# Altium integrated library BB Instrumentation Amplifier.IntLib: 107 symbols (part 3 of 3)
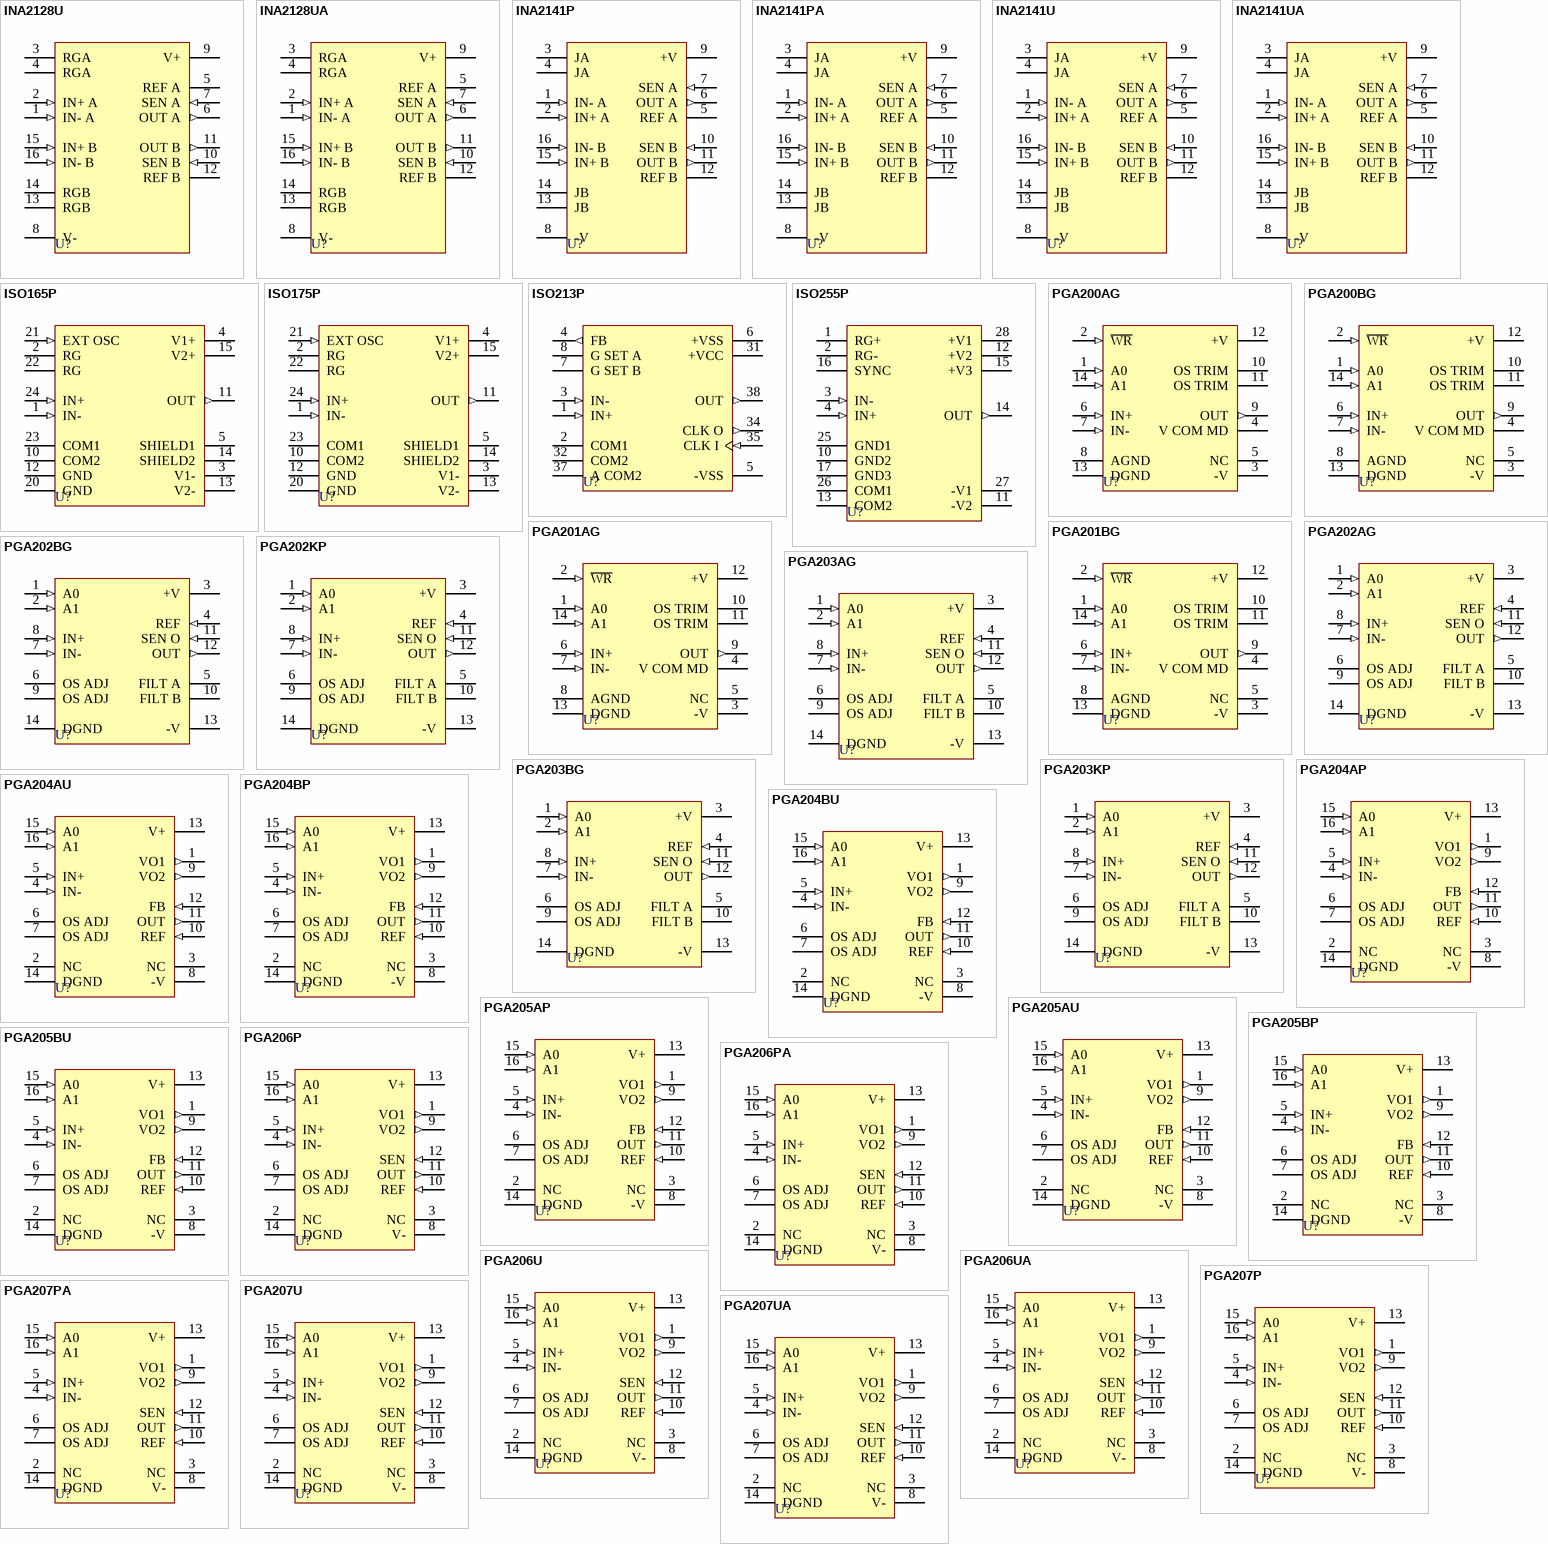
[diagram p4: symbols INA2128U to PGA207UA]

## PGA207UA
designator U?
High-Speed Programmable Gain Instrumentation Amplifier; Note: Pins 2 and 3 are No internal Connection (NC) pins.; Published: 8-Jun-2000; LatestRevisionDate: 13-Apr-2006; LatestRevisionNote: IPC-7351 Footprint Added.; DatasheetVersion: May-1995; PackageReference: 211F; Publisher: Altium Limited; PackageDescription: 16-Pin Small Outline Integrated Circuit 1.27 mm Pitch; Code_JEDEC: MS-013-AA; Code_IPC: SOIC127P1030-16; ComponentLink1Description: Manufacturer Link; ComponentLink1URL: http://www.ti.com/; ComponentLink2Description: Datasheet; ComponentLink2URL: http://www-s.ti.com/sc/ds/PGA206.pdf
footprint 211F_N (SOIC, 16-Leads, Body 10.3x7.5mm, Pitch 1.27mm, IPC Medium Density)
footprint 211F_L (SOIC, 16-Leads, Body 10.3x7.5mm, Pitch 1.27mm, IPC High Density)
footprint 211F_M (SOIC, 16-Leads, Body 10.3x7.5mm, Pitch 1.27mm, IPC Low Density)
3D model SOIC16 (16-Pin Small Outline Integrated Circuit 1.27 mm Pitch)
simulation model PGA207 (SUBCKT)
pins: 1 VO1 (out), 2 NC, 3 NC, 4 IN- (in), 5 IN+ (in), 6 OS ADJ, 7 OS ADJ, 8 V- (power), 9 VO2 (out), 10 REF (in), 11 OUT (out), 12 SEN (in), 13 V+ (power), 14 DGND (power), 15 A0 (in), 16 A1 (in)